# Altium integrated library Linear Technology Power Management Switching Regulator LTC1174-LTC3901.IntLib: 2647 symbols (part 326 of 364)
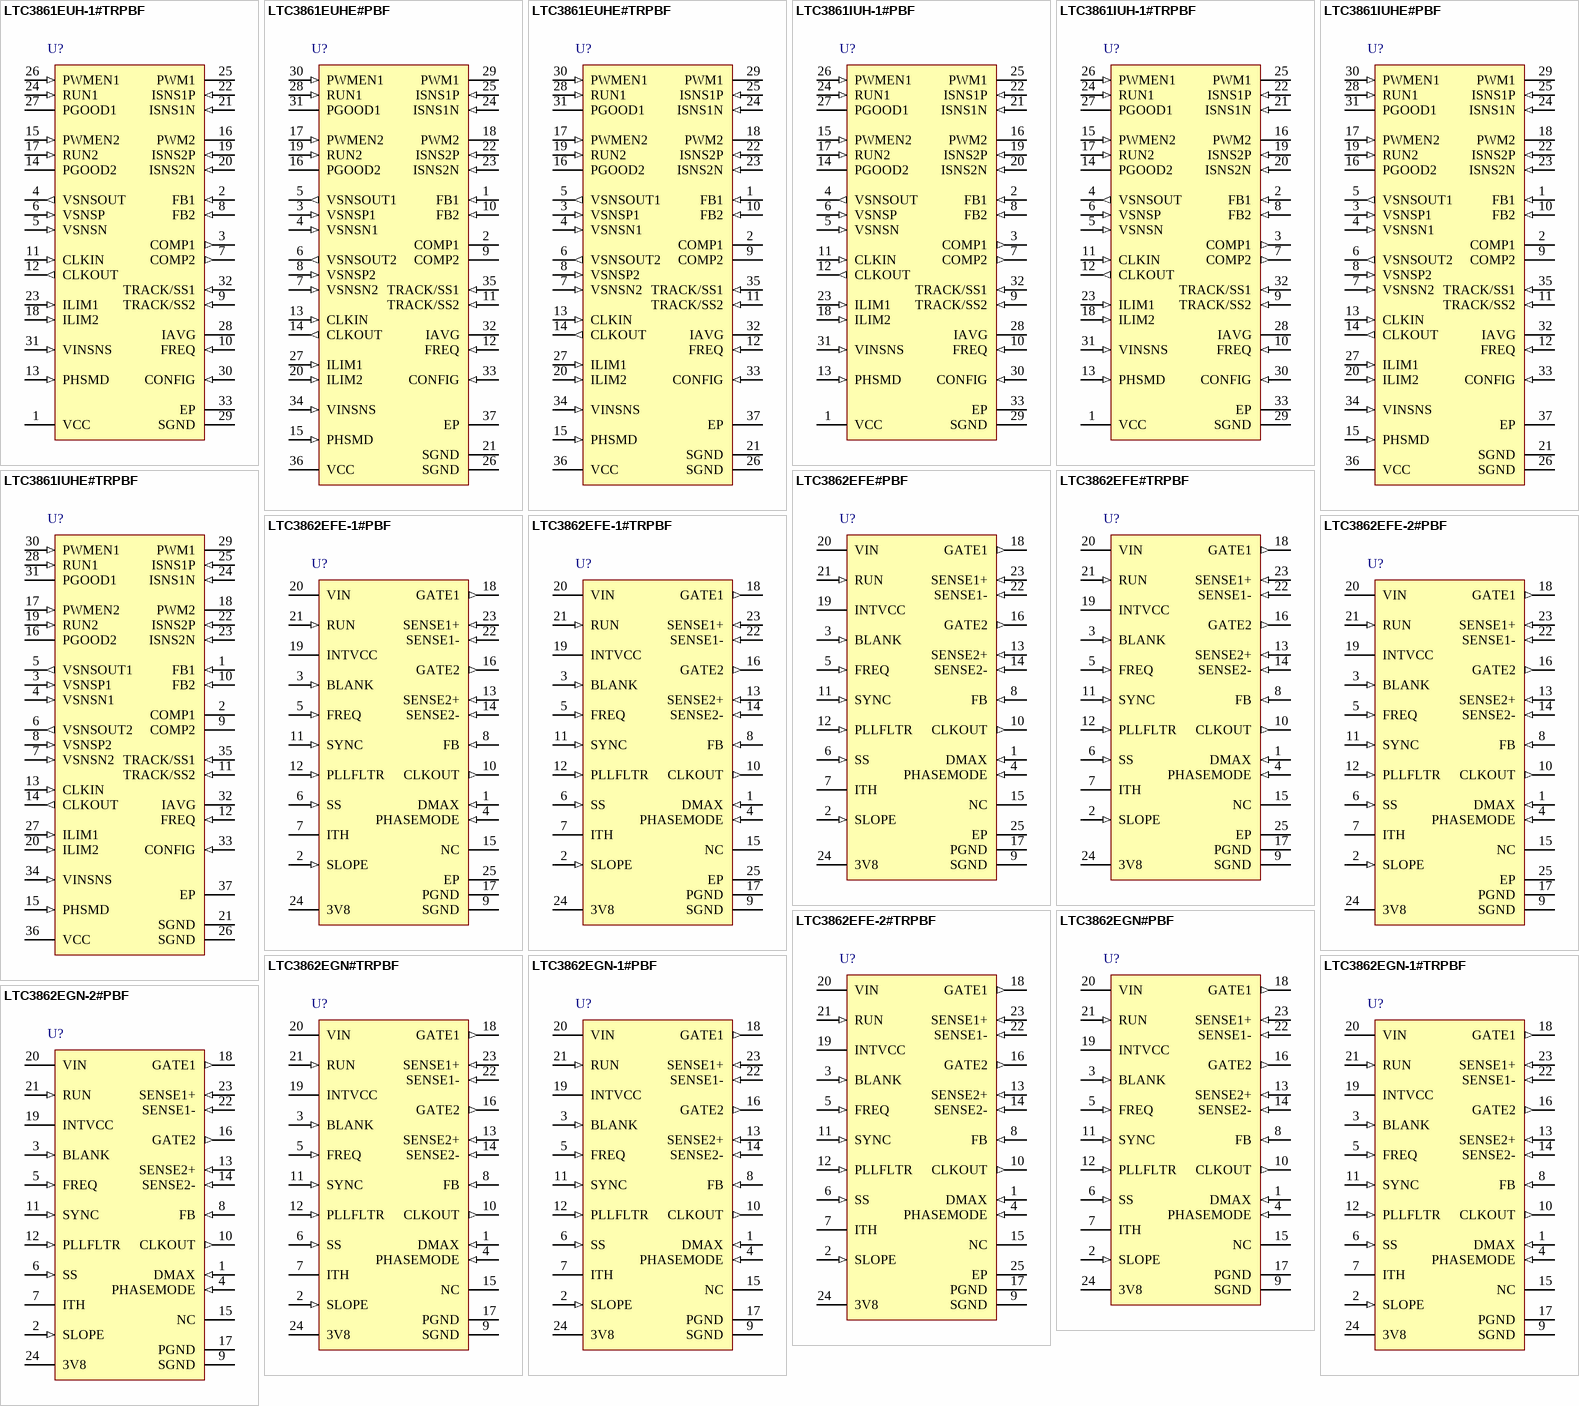
[diagram p286: symbols LTC3861EUH-1#TRPBF to LTC3862EGN-2#PBF]

## LTC3861IUHE#TRPBF
designator U?
Dual, Multiphase Step-Down Voltage Mode DC/DC Controller with Accurate Current Sharing, 36-pin QFN (UHE-36), -40 to 125 degC, Pb-Free, Tape and Reel; Manufacturer: Linear Technology; PartNumber: LTC3861IUHE#TRPBF; Frequency Sync Range: Up to 2.25MHz; Number of Outputs: 1; DatasheetVersion: Rev. A; PackageVersion: Rev. Ø, 10/2010; PackageReference: UHE-36; PackageDescription: 36-Pin Plastic QFN, Body 5 x 6 mm, Pitch 0.5 mm; Supplier 1: Digi-Key; Supplier Part Number 1: LTC3861IUHE#TRPBF-ND; Packing: Tape and Reel; RoHS: TRUE; Mounting Technology: Surface Mount; ComponentLink1Description: Manufacturer URL; ComponentLink1URL: http://www.linear.com/; ComponentLink2Description: Datasheet; ComponentLink2URL: http://cds.linear.com/docs/en/datasheet/3861fa.pdf; ComponentLink3Description: Package Specification; ComponentLink3URL: http://cds.linear.com/docs/en/packaging/(UHE36)%20QFN%2005-08-1876%20Rev%20%C3%98.pdf
footprint LT-UHE-36-4600X3600TP_N (QFN, 36-Leads, Body 6.1x5.1mm, Pitch 0.5mm, Thermal Pad 4.6x3.6mm, IPC Medium Density)
footprint LT-UHE-36-4600X3600TP_L (QFN, 36-Leads, Body 6.1x5.1mm, Pitch 0.5mm, Thermal Pad 4.6x3.6mm, IPC High Density)
footprint LT-UHE-36-4600X3600TP_M (QFN, 36-Leads, Body 6.1x5.1mm, Pitch 0.5mm, Thermal Pad 4.6x3.6mm, IPC Low Density)
pins: 1 FB1 (in) "Error Amplifier Inverting Input. Connect to VSNSOUT1, VNSOUT2 with a compensation network for remote VOUT sensing. Connecting the FB to VCC disables the differential and error amplifiers of the respective channel, and will (See Datasheet)", 2 COMP1 "Error Amplifier Outputs. PWM duty cycle increases with this control voltage. The error amplifiers in the LTC3861 are true operational amplifiers with low output impedance. As a result, the outputs of two active error (See Datasheet)", 3 VSNSP1 (in) "Differential Sense Amplifier Noninverting Input. Connect this pin to the midpoint of the feedback resistive divider between the positive and negative output capacitor terminals.", 4 VSNSN1 (in) "Differential Sense Amplifier Inverting Input. Connect this pin to sense ground at the output load.", 5 VSNSOUT1 (out) "Differential Amplifier Output. Connect to FB1, FB2 with a compensation network for remote VOUT sensing.", 6 VSNSOUT2 (out) "Differential Amplifier Output. Connect to FB1, FB2 with a compensation network for remote VOUT sensing.", 7 VSNSN2 (in) "Differential Sense Amplifier Inverting Input. Connect this pin to sense ground at the output load.", 8 VSNSP2 (in) "Differential Sense Amplifier Noninverting Input. Connect this pin to the midpoint of the feedback resistive divider between the positive and negative output capacitor terminals.", 9 COMP2 "Error Amplifier Outputs. PWM duty cycle increases with this control voltage. The error amplifiers in the LTC3861 are true operational amplifiers with low output impedance. As a result, the outputs of two active error (See Datasheet)", 10 FB2 (in) "Error Amplifier Inverting Input. Connect to VSNSOUT1, VNSOUT2 with a compensation network for remote VOUT sensing. Connecting the FB to VCC disables the differential and error amplifiers of the respective channel, and will (See Datasheet)", 11 TRACK/SS2 (in) "Combined Soft-Start and Tracking Inputs. For soft-start operation, connecting a capacitor from this pin to ground will control the voltage ramp at the output of the power supply. An internal 2.5uA current source will charge (See Datasheet)", 12 FREQ (in) "Frequency Set/Select Pin. This pin sources 20uA current. If CLKIN is high or floating, then a resistor between this pin and SGND sets the switching frequency. If CLKIN is low, the logic state of this pin selects an internal (See Datasheet)", 13 CLKIN (in) "External Clock Synchronization Input. Applying an external clock between 250kHz to 2.25MHz will cause the switching frequency to synchronize to the clock. CLKIN is pulled high to VCC by a 50k internal resistor. The rising (See Datasheet)", 14 CLKOUT (out) "Digital Output Used for Daisychaining  Multiple LTC3861 ICs in Multiphase Systems. The PHSMD pin voltage controls the relationship between CH1 andCH2  as well as between CH1 and CLKOUT. When both RUN pins are driven low, the (See Datasheet)", 15 PHSMD (in) "Phase Mode Pin. The PHSMD pin voltage programs the phase relationship between CH1 and CH2 rising PWM signals, as well as the phase relationship between CH1 PWM signal and CLKOUT. Floating this pin or connecting it to either (See Datasheet)", 16 PGOOD2 (oc) "Power Good Indicator Output for Each Channel. Open-drain logic out that is pulled to SGND when either channel output exceeds a +/-10% regulation window, after the internal 30us power bad mask timer expires.", 17 PWMEN2 (in) "Enable Pin for Non-Three-State compatible drivers. This pin has an internal open-drain pull-up to VCC. An external resistor to SGND is required. This pin is low when the corresponding PWM pin is high impedance.", 18 PWM2 (hiz) "(Top) Gate Signal Output. This signal goes to the PWM or top gate input of the external gate driver or integrated driver MOSFET. This is a three-state compatible output.", 19 RUN2 (in) "Run Control Inputs. A voltage above 2.25V on either pin turns on the IC. However, forcing either of these pins below 2V causes the IC to shut down that particular channel. There are 1.5uA pull-up currents for these pins.", 20 ILIM2 (in) "Current Comparator Sense Voltage Limit Selection Pin. Connect a resistor from this pin to SGND. This pin sources 20uA. The resultant voltage sets the threshold for overcurrent protection.", 21 SGND (power) "Signal Ground. Pins 21, 26, and 37 are electrically connected internally.  The exposed pad must be soldered to the PCB ground for rated thermal performance. All soft-start, small-signal and compensation components should (See Datasheet)", 22 ISNS2P (in) "Current Sense Amplifier (+) Input. The (+) input to the current sense amplifier is normally connected to the midpoint of the inductor’s  parallel RC sense circuit or to the node between the inductor and sense resistor i(See Datasheet)", 23 ISNS2N (in) "Current Sense Amplifier (-) Input. The (-) input to the current amplifier is normally connected to the respective VOUT at the inductor.", 24 ISNS1N (in) "Current Sense Amplifier (-) Input. The (-) input to the current amplifier is normally connected to the respective VOUT at the inductor.", 25 ISNS1P (in) "Current Sense Amplifier (+) Input. The (+) input to the current sense amplifier is normally connected to the midpoint of the inductor’s  parallel RC sense circuit or to the node between the inductor and sense resistor i(See Datasheet)", 26 SGND (power) "Signal Ground. Pins 21, 26, and 37 are electrically connected internally.  The exposed pad must be soldered to the PCB ground for rated thermal performance. All soft-start, small-signal and compensation components should (See Datasheet)", 27 ILIM1 (in) "Current Comparator Sense Voltage Limit Selection Pin. Connect a resistor from this pin to SGND. This pin sources 20uA. The resultant voltage sets the threshold for overcurrent protection.", 28 RUN1 (in) "Run Control Inputs. A voltage above 2.25V on either pin turns on the IC. However, forcing either of these pins below 2V causes the IC to shut down that particular channel. There are 1.5uA pull-up currents for these pins.", 29 PWM1 (hiz) "(Top) Gate Signal Output. This signal goes to the PWM or top gate input of the external gate driver or integrated driver MOSFET. This is a three-state compatible output.", 30 PWMEN1 (in) "Enable Pin for Non-Three-State compatible drivers. This pin has an internal open-drain pull-up to VCC. An external resistor to SGND is required. This pin is low when the corresponding PWM pin is high impedance.", 31 PGOOD1 (oc) "Power Good Indicator Output for Each Channel. Open-drain logic out that is pulled to SGND when either channel output exceeds a +/-10% regulation window, after the internal 30us power bad mask timer expires.", 32 IAVG "Average Current Output Pin. A capacitor tied to ground from this pin stores a voltage proportional to the instantaneous average current of the master when multiple outputs are paralleled together in a master-slave (See Datasheet)", 33 CONFIG (in) "Line Feedforward Configuration Pin.  This pin allows the user to configure the multiplier to  achieve accurate modulator gain over varying VIN and  switching frequencies. This pin can be connected to VCC or SGND. An internal (See Datasheet)", 34 VINSNS (in) "VIN Sense Pin. Connects to the VIN power supply to provide line feedforward compensation. A change in VIN immediately modulates the input to the PWM comparator and changes the pulse width in an inversely proportionalmanner, (See Datasheet)", 35 TRACK/SS1 (in) "Combined Soft-Start and Tracking Inputs. For soft-start operation, connecting a capacitor from this pin to ground will control the voltage ramp at the output of the power supply. An internal 2.5uA current source will charge (See Datasheet)", 36 VCC (power) "Chip Supply Voltage. Bypass this pin to GND with a capacitor (0.1uF to 1uF ceramic) in close proximity to the chip.", 37 EP (power) "Signal Ground. Pins 21, 26, and 37 are electrically connected internally.  The exposed pad must be soldered to the PCB ground for rated thermal performance. All soft-start, small-signal and compensation components should (See Datasheet)"

## LTC3862EFE#PBF
designator U?
Multi-Phase Current Mode Step-Up DC/DC Controller, 5 V IntVcc, 3.3 V UV+, 2.9 V UV-, 24-pin SOP (FE-24-EPV-AA), -40 to 125 degC, Pb-Free; Manufacturer: Linear Technology; PartNumber: LTC3862EFE#PBF; Frequency Sync Range: 50kHz - 650kHz; Number of Outputs: 1; DatasheetVersion: Rev. B; PackageVersion: Rev. B, 09/2010; PackageReference: FE-24; PackageDescription: 24-Pin Plastic TSSOP, Body 7.8 x 4.4 mm, Pitch 0.65 mm; Supplier 1: Digi-Key; Supplier Part Number 1: LTC3862EFE#PBF-ND; Supplier 2: Farnell; Supplier Part Number 2: 1673553; Supplier 3: Newark; Supplier Part Number 3: 07P8312; RoHS: TRUE; Mounting Technology: Surface Mount; ComponentLink1Description: Manufacturer URL; ComponentLink1URL: http://www.linear.com/; ComponentLink2Description: Datasheet; ComponentLink2URL: http://cds.linear.com/docs/en/datasheet/3862fb.pdf; ComponentLink3Description: Package Specification; ComponentLink3URL: http://cds.linear.com/docs/en/packaging/TSSOP_24_05-08-1771.pdf
footprint LT-FE-24-EPV-AA_N (SOP, 24-Leads, Body 7.9x4.5mm, Pitch 0.65mm, Thermal Pad 2.74x3.25mm, IPC Medium Density)
footprint LT-FE-24-EPV-AA_L (SOP, 24-Leads, Body 7.9x4.5mm, Pitch 0.65mm, Thermal Pad 2.74x3.25mm, IPC High Density)
footprint LT-FE-24-EPV-AA_M (SOP, 24-Leads, Body 7.9x4.5mm, Pitch 0.65mm, Thermal Pad 2.74x3.25mm, IPC Low Density)
pins: 1 DMAX (in) "Maximum Duty Cycle. This pin programs the maximum duty cycle. Floating this pin provides 84% duty cycle. Connecting this pin to 3V8 provides 75% duty cycle, while connecting it to SGND provides 96% duty cycle. The maximum (See Datasheet)", 2 SLOPE (in) "This pin programs the gain of the internal slope compensation. Floating this pin provides a normalized slope compensation gain of 1.00. Connecting this pin to 3V8 increases the normalized slope compensation by 66%, and (See Datasheet)", 3 BLANK (in) "Blanking Time. Floating this pin provides a nominal minimum on-time of 260ns. Connecting this pin to 3V8 provides a minimum on-time of 340ns, while connecting it to SGND provides a minimum on-time of 180ns.", 4 PHASEMODE (in) "The PHASEMODE pin voltage programs the phase relationship between CH1 and CH2 rising gate signals, as well as the phase relationship between CH1 gate signal and CLKOUT. Floating this pin or connecting it to either 3V8, or (See Datasheet)", 5 FREQ (in) "A resistor from FREQ to SGND sets the operating frequency.", 6 SS (in) "Soft-Start Input. For soft-start operation, connecting a capacitor from this pin to SGND will clamp the output of the error amp. An internal 5uA current source will charge the capacitor and set the rate of increase of the (See Datasheet)", 7 ITH "Error Amplifier Output. The current comparator trip threshold increases with the ITH control voltage. The ITH pin is also used for compensating the control loop of the converter.", 8 FB (in) "Error Amplifier Input. The FB pin should be connected through a resistive divider network to VOUT to set the output voltage.", 9 SGND (power) "Signal Ground. All feedback and soft-start connections should return to SGND. For optimum load regulation, the SGND pin should be kelvin connected to the PCB location between the negative terminals of the output capacitors.", 10 CLKOUT (out) "Digital Output Used for Daisy-Chaining Multiple LTC3862 ICs in Multi-Phase Systems. The PHASEMODE pin voltage controls the relationship between CH1 and CH2 as well as between CH1 and CLKOUT.", 11 SYNC (in) "PLL Synchronization Input. Applying an external clock between 50kHz and 650kHz will cause the operating frequency to synchronize to the clock. SYNC is pulled down by a 50k internal resistor. The rising edge of the SYNC input (See Datasheet)", 12 PLLFLTR (in) "PLL Lowpass Filter Input. When synchronizing to an external clock, this pin serves as the lowpass filter input for the PLL. A series resistor and capacitor connected from PLLFLTR to SGND compensate the PLL feedback loop.", 13 SENSE2+ (in) "Positive Inputs to the Current Comparators. The ITH pin voltage programs the current comparator offset in order to set the peak current trip threshold. This pin is normally connected to a sense resistor in the source of the (See Datasheet)", 14 SENSE2- (in) "Negative Inputs to the Current Comparators. This pin is normally connected to the bottom of the sense resistor.", 15 NC, 16 GATE2 (out) "Gate Drive Output. The LTC3862 provides a 5V gate drive referenced to PGND to drive a high voltage MOSFET.", 17 PGND (power) "Power Ground. Connect this pin close to the sources of the power MOSFETs. PGND should also be connected to the negative terminals of VIN and INTVCC bypass capacitors. PGND is electrically isolated from the SGND pin. The (See Datasheet)", 18 GATE1 (out) "Gate Drive Output. The LTC3862 provides a 5V gate drive referenced to PGND to drive a high voltage MOSFET.", 19 INTVCC (power) "Output of the Internal 10V Low Dropout Regulator (LDO). A low ESR 4.7uF (X5R or better) ceramic bypass capacitor should be connected between INTVCC and PGND, as close as possible to the IC.", 20 VIN (power) "Main Supply Input. A low ESR ceramic capacitor should be connected between this pin and SGND.", 21 RUN (in) "Run Control Input. A voltage above 1.22V on the pin turns on the IC. Forcing the pin below 1.22V causes the IC to shut down. There is a 0.5uA pull-up current for this pin. Once the RUN pin raises above 1.22V, an additional 4.(See Datasheet)", 22 SENSE1- (in) "Negative Inputs to the Current Comparators. This pin is normally connected to the bottom of the sense resistor.", 23 SENSE1+ (in) "Positive Inputs to the Current Comparators. The ITH pin voltage programs the current comparator offset in order to set the peak current trip threshold. This pin is normally connected to a sense resistor in the source of the (See Datasheet)", 24 3V8 (power) "Output of the Internal 3.8V LDO from INTVCC. Supply pin for the low voltage analog and digital circuits. A low ESR 1nF ceramic bypass capacitor should be connected between 3V8 and SGND, as close as possible to the IC.", 25 EP (power) "Power Ground. Connect this pin close to the sources of the power MOSFETs. PGND should also be connected to the negative terminals of VIN and INTVCC bypass capacitors. PGND is electrically isolated from the SGND pin. The (See Datasheet)"

## LTC3862EFE#TRPBF
designator U?
Multi-Phase Current Mode Step-Up DC/DC Controller, 5 V IntVcc, 3.3 V UV+, 2.9 V UV-, 24-pin SOP (FE-24-EPV-AA), -40 to 125 degC, Pb-Free, Tape and Reel; Manufacturer: Linear Technology; PartNumber: LTC3862EFE#TRPBF; Frequency Sync Range: 50kHz - 650kHz; Number of Outputs: 1; DatasheetVersion: Rev. B; PackageVersion: Rev. B, 09/2010; PackageReference: FE-24; PackageDescription: 24-Pin Plastic TSSOP, Body 7.8 x 4.4 mm, Pitch 0.65 mm; Supplier 1: Digi-Key; Supplier Part Number 1: LTC3862EFE#TRPBF-ND; Supplier 2: Newark; Supplier Part Number 2: 07P8313; Packing: Tape and Reel; RoHS: TRUE; Mounting Technology: Surface Mount; ComponentLink1Description: Manufacturer URL; ComponentLink1URL: http://www.linear.com/; ComponentLink2Description: Datasheet; ComponentLink2URL: http://cds.linear.com/docs/en/datasheet/3862fb.pdf; ComponentLink3Description: Package Specification; ComponentLink3URL: http://cds.linear.com/docs/en/packaging/TSSOP_24_05-08-1771.pdf
footprint LT-FE-24-EPV-AA_N (SOP, 24-Leads, Body 7.9x4.5mm, Pitch 0.65mm, Thermal Pad 2.74x3.25mm, IPC Medium Density)
footprint LT-FE-24-EPV-AA_L (SOP, 24-Leads, Body 7.9x4.5mm, Pitch 0.65mm, Thermal Pad 2.74x3.25mm, IPC High Density)
footprint LT-FE-24-EPV-AA_M (SOP, 24-Leads, Body 7.9x4.5mm, Pitch 0.65mm, Thermal Pad 2.74x3.25mm, IPC Low Density)
pins: 1 DMAX (in) "Maximum Duty Cycle. This pin programs the maximum duty cycle. Floating this pin provides 84% duty cycle. Connecting this pin to 3V8 provides 75% duty cycle, while connecting it to SGND provides 96% duty cycle. The maximum (See Datasheet)", 2 SLOPE (in) "This pin programs the gain of the internal slope compensation. Floating this pin provides a normalized slope compensation gain of 1.00. Connecting this pin to 3V8 increases the normalized slope compensation by 66%, and (See Datasheet)", 3 BLANK (in) "Blanking Time. Floating this pin provides a nominal minimum on-time of 260ns. Connecting this pin to 3V8 provides a minimum on-time of 340ns, while connecting it to SGND provides a minimum on-time of 180ns.", 4 PHASEMODE (in) "The PHASEMODE pin voltage programs the phase relationship between CH1 and CH2 rising gate signals, as well as the phase relationship between CH1 gate signal and CLKOUT. Floating this pin or connecting it to either 3V8, or (See Datasheet)", 5 FREQ (in) "A resistor from FREQ to SGND sets the operating frequency.", 6 SS (in) "Soft-Start Input. For soft-start operation, connecting a capacitor from this pin to SGND will clamp the output of the error amp. An internal 5uA current source will charge the capacitor and set the rate of increase of the (See Datasheet)", 7 ITH "Error Amplifier Output. The current comparator trip threshold increases with the ITH control voltage. The ITH pin is also used for compensating the control loop of the converter.", 8 FB (in) "Error Amplifier Input. The FB pin should be connected through a resistive divider network to VOUT to set the output voltage.", 9 SGND (power) "Signal Ground. All feedback and soft-start connections should return to SGND. For optimum load regulation, the SGND pin should be kelvin connected to the PCB location between the negative terminals of the output capacitors.", 10 CLKOUT (out) "Digital Output Used for Daisy-Chaining Multiple LTC3862 ICs in Multi-Phase Systems. The PHASEMODE pin voltage controls the relationship between CH1 and CH2 as well as between CH1 and CLKOUT.", 11 SYNC (in) "PLL Synchronization Input. Applying an external clock between 50kHz and 650kHz will cause the operating frequency to synchronize to the clock. SYNC is pulled down by a 50k internal resistor. The rising edge of the SYNC input (See Datasheet)", 12 PLLFLTR (in) "PLL Lowpass Filter Input. When synchronizing to an external clock, this pin serves as the lowpass filter input for the PLL. A series resistor and capacitor connected from PLLFLTR to SGND compensate the PLL feedback loop.", 13 SENSE2+ (in) "Positive Inputs to the Current Comparators. The ITH pin voltage programs the current comparator offset in order to set the peak current trip threshold. This pin is normally connected to a sense resistor in the source of the (See Datasheet)", 14 SENSE2- (in) "Negative Inputs to the Current Comparators. This pin is normally connected to the bottom of the sense resistor.", 15 NC, 16 GATE2 (out) "Gate Drive Output. The LTC3862 provides a 5V gate drive referenced to PGND to drive a high voltage MOSFET.", 17 PGND (power) "Power Ground. Connect this pin close to the sources of the power MOSFETs. PGND should also be connected to the negative terminals of VIN and INTVCC bypass capacitors. PGND is electrically isolated from the SGND pin. The (See Datasheet)", 18 GATE1 (out) "Gate Drive Output. The LTC3862 provides a 5V gate drive referenced to PGND to drive a high voltage MOSFET.", 19 INTVCC (power) "Output of the Internal 10V Low Dropout Regulator (LDO). A low ESR 4.7uF (X5R or better) ceramic bypass capacitor should be connected between INTVCC and PGND, as close as possible to the IC.", 20 VIN (power) "Main Supply Input. A low ESR ceramic capacitor should be connected between this pin and SGND.", 21 RUN (in) "Run Control Input. A voltage above 1.22V on the pin turns on the IC. Forcing the pin below 1.22V causes the IC to shut down. There is a 0.5uA pull-up current for this pin. Once the RUN pin raises above 1.22V, an additional 4.(See Datasheet)", 22 SENSE1- (in) "Negative Inputs to the Current Comparators. This pin is normally connected to the bottom of the sense resistor.", 23 SENSE1+ (in) "Positive Inputs to the Current Comparators. The ITH pin voltage programs the current comparator offset in order to set the peak current trip threshold. This pin is normally connected to a sense resistor in the source of the (See Datasheet)", 24 3V8 (power) "Output of the Internal 3.8V LDO from INTVCC. Supply pin for the low voltage analog and digital circuits. A low ESR 1nF ceramic bypass capacitor should be connected between 3V8 and SGND, as close as possible to the IC.", 25 EP (power) "Power Ground. Connect this pin close to the sources of the power MOSFETs. PGND should also be connected to the negative terminals of VIN and INTVCC bypass capacitors. PGND is electrically isolated from the SGND pin. The (See Datasheet)"

## LTC3862EFE-1#PBF
designator U?
Multi-Phase Current Mode Step-Up DC/DC Controller, 10 V IntVcc, 7.5 V UV+, 7 V UV-, 24-pin SOP (FE-24-EPV-AA), -40 to 125 degC, Pb-Free; Manufacturer: Linear Technology; PartNumber: LTC3862EFE-1#PBF; Frequency Sync Range: 50kHz - 650kHz; Number of Outputs: 1; PackageVersion: Rev. B, 09/2010; PackageReference: FE-24; PackageDescription: 24-Pin Plastic TSSOP, Body 7.8 x 4.4 mm, Pitch 0.65 mm; Supplier 1: Digi-Key; Supplier Part Number 1: LTC3862EFE-1#PBF-ND; Supplier 2: Farnell; Supplier Part Number 2: 1673525; Supplier 3: Newark; Supplier Part Number 3: 12P7567; RoHS: TRUE; Mounting Technology: Surface Mount; ComponentLink1Description: Manufacturer URL; ComponentLink1URL: http://www.linear.com/; ComponentLink2Description: Datasheet; ComponentLink2URL: http://cds.linear.com/docs/en/datasheet/38621f.pdf; ComponentLink3Description: Package Specification; ComponentLink3URL: http://cds.linear.com/docs/en/packaging/TSSOP_24_05-08-1771.pdf
footprint LT-FE-24-EPV-AA_N (SOP, 24-Leads, Body 7.9x4.5mm, Pitch 0.65mm, Thermal Pad 2.74x3.25mm, IPC Medium Density)
footprint LT-FE-24-EPV-AA_L (SOP, 24-Leads, Body 7.9x4.5mm, Pitch 0.65mm, Thermal Pad 2.74x3.25mm, IPC High Density)
footprint LT-FE-24-EPV-AA_M (SOP, 24-Leads, Body 7.9x4.5mm, Pitch 0.65mm, Thermal Pad 2.74x3.25mm, IPC Low Density)
pins: 1 DMAX (in) "Maximum Duty Cycle. This pin programs the maximum duty cycle. Floating this pin provides 84% duty cycle. Connecting this pin to 3V8 provides 75% duty cycle, while connecting it to SGND provides 96% duty cycle. The maximum (See Datasheet)", 2 SLOPE (in) "This pin programs the gain of the internal slope compensation. Floating this pin provides a normalized slope compensation gain of 1.00. Connecting this pin to 3V8 increases the normalized slope compensation by 66%, and (See Datasheet)", 3 BLANK (in) "Blanking Time. Floating this pin provides a nominal minimum on-time of 290ns. Connecting this pin to 3V8 provides a minimum on-time of 375ns, while connecting it to SGND provides a minimum on-time of 210ns.", 4 PHASEMODE (in) "The PHASEMODE pin voltage programs the phase relationship between CH1 and CH2 rising gate signals, as well as the phase relationship between CH1 gate signal and CLKOUT. Floating this pin or connecting it to either 3V8, or (See Datasheet)", 5 FREQ (in) "A resistor from FREQ to SGND sets the operating frequency.", 6 SS (in) "Soft-Start Input. For soft-start operation, connecting a capacitor from this pin to SGND will clamp the output of the error amp. An internal 5uA current source will charge the capacitor and set the rate of increase of the (See Datasheet)", 7 ITH "Error Amplifier Output. The current comparator trip threshold increases with the ITH control voltage. The ITH pin is also used for compensating the control loop of the converter.", 8 FB (in) "Error Amplifier Input. The FB pin should be connected through a resistive divider network to VOUT to set the output voltage.", 9 SGND (power) "Signal Ground. All feedback and soft-start connections should return to SGND. For optimum load regulation, the SGND pin should be kelvin connected to the PCB location between the negative terminals of the output capacitors.", 10 CLKOUT (out), 11 SYNC (in) "PLL Synchronization Input. Applying an external clock between 50kHz and 650kHz will cause the operating frequency to synchronize to the clock. SYNC is pulled down by a 50k internal resistor. The rising edge of the SYNC input (See Datasheet)", 12 PLLFLTR (in) "PLL Lowpass Filter Input. When synchronizing to an external clock, this pin serves as the lowpass filter input for the PLL. A series resistor and capacitor connected from PLLFLTR to SGND compensate the PLL feedback loop.", 13 SENSE2+ (in) "Positive Inputs to the Current Comparators. The ITH pin voltage programs the current comparator offset in order to set the peak current trip threshold. This pin is normally connected to a sense resistor in the source of the (See Datasheet)", 14 SENSE2- (in) "Negative Inputs to the Current Comparators. This pin is normally connected to the bottom of the sense resistor.", 15 NC, 16 GATE2 (out) "Gate Drive Output.", 17 PGND (power) "Power Ground. Connect this pin close to the sources of the power MOSFETs. PGND should also be connected to the negative terminals of VIN and INTVCC bypass capacitors. PGND is electrically isolated from the SGND pin. The (See Datasheet)", 18 GATE1 (out) "Gate Drive Output.", 19 INTVCC (power) "Output of the Internal 10V Low Dropout Regulator (LDO). A low ESR 4.7uF (X5R or better) ceramic bypass capacitor should be connected between INTVCC and PGND, as close as possible to the IC.", 20 VIN (power) "Main Supply Input. A low ESR ceramic capacitor should be connected between this pin and SGND.", 21 RUN (in) "Run Control Input. A voltage above 1.22V on the pin turns on the IC. Forcing the pin below 1.22V causes the IC to shut down. There is a 0.5uA pull-up current for this pin. Once the RUN pin raises above 1.22V, an additional 4.(See Datasheet)", 22 SENSE1- (in) "Negative Inputs to the Current Comparators. This pin is normally connected to the bottom of the sense resistor.", 23 SENSE1+ (in) "Positive Inputs to the Current Comparators. The ITH pin voltage programs the current comparator offset in order to set the peak current trip threshold. This pin is normally connected to a sense resistor in the source of the (See Datasheet)", 24 3V8 (power) "Output of the Internal 3.8V LDO from INTVCC. Supply pin for the low voltage analog and digital circuits. A low ESR 1nF ceramic bypass capacitor should be connected between 3V8 and SGND, as close as possible to the IC.", 25 EP (power)

## LTC3862EFE-1#TRPBF
designator U?
Multi-Phase Current Mode Step-Up DC/DC Controller, 10 V IntVcc, 7.5 V UV+, 7 V UV-, 24-pin SOP (FE-24-EPV-AA), -40 to 125 degC, Pb-Free, Tape and Reel; Manufacturer: Linear Technology; PartNumber: LTC3862EFE-1#TRPBF; Frequency Sync Range: 50kHz - 650kHz; Number of Outputs: 1; PackageVersion: Rev. B, 09/2010; PackageReference: FE-24; PackageDescription: 24-Pin Plastic TSSOP, Body 7.8 x 4.4 mm, Pitch 0.65 mm; Supplier 1: Digi-Key; Supplier Part Number 1: LTC3862EFE-1#TRPBF-ND; Packing: Tape and Reel; RoHS: TRUE; Mounting Technology: Surface Mount; ComponentLink1Description: Manufacturer URL; ComponentLink1URL: http://www.linear.com/; ComponentLink2Description: Datasheet; ComponentLink2URL: http://cds.linear.com/docs/en/datasheet/38621f.pdf; ComponentLink3Description: Package Specification; ComponentLink3URL: http://cds.linear.com/docs/en/packaging/TSSOP_24_05-08-1771.pdf
footprint LT-FE-24-EPV-AA_N (SOP, 24-Leads, Body 7.9x4.5mm, Pitch 0.65mm, Thermal Pad 2.74x3.25mm, IPC Medium Density)
footprint LT-FE-24-EPV-AA_L (SOP, 24-Leads, Body 7.9x4.5mm, Pitch 0.65mm, Thermal Pad 2.74x3.25mm, IPC High Density)
footprint LT-FE-24-EPV-AA_M (SOP, 24-Leads, Body 7.9x4.5mm, Pitch 0.65mm, Thermal Pad 2.74x3.25mm, IPC Low Density)
pins: 1 DMAX (in) "Maximum Duty Cycle. This pin programs the maximum duty cycle. Floating this pin provides 84% duty cycle. Connecting this pin to 3V8 provides 75% duty cycle, while connecting it to SGND provides 96% duty cycle. The maximum (See Datasheet)", 2 SLOPE (in) "This pin programs the gain of the internal slope compensation. Floating this pin provides a normalized slope compensation gain of 1.00. Connecting this pin to 3V8 increases the normalized slope compensation by 66%, and (See Datasheet)", 3 BLANK (in) "Blanking Time. Floating this pin provides a nominal minimum on-time of 290ns. Connecting this pin to 3V8 provides a minimum on-time of 375ns, while connecting it to SGND provides a minimum on-time of 210ns.", 4 PHASEMODE (in) "The PHASEMODE pin voltage programs the phase relationship between CH1 and CH2 rising gate signals, as well as the phase relationship between CH1 gate signal and CLKOUT. Floating this pin or connecting it to either 3V8, or (See Datasheet)", 5 FREQ (in) "A resistor from FREQ to SGND sets the operating frequency.", 6 SS (in) "Soft-Start Input. For soft-start operation, connecting a capacitor from this pin to SGND will clamp the output of the error amp. An internal 5uA current source will charge the capacitor and set the rate of increase of the (See Datasheet)", 7 ITH "Error Amplifier Output. The current comparator trip threshold increases with the ITH control voltage. The ITH pin is also used for compensating the control loop of the converter.", 8 FB (in) "Error Amplifier Input. The FB pin should be connected through a resistive divider network to VOUT to set the output voltage.", 9 SGND (power) "Signal Ground. All feedback and soft-start connections should return to SGND. For optimum load regulation, the SGND pin should be kelvin connected to the PCB location between the negative terminals of the output capacitors.", 10 CLKOUT (out), 11 SYNC (in) "PLL Synchronization Input. Applying an external clock between 50kHz and 650kHz will cause the operating frequency to synchronize to the clock. SYNC is pulled down by a 50k internal resistor. The rising edge of the SYNC input (See Datasheet)", 12 PLLFLTR (in) "PLL Lowpass Filter Input. When synchronizing to an external clock, this pin serves as the lowpass filter input for the PLL. A series resistor and capacitor connected from PLLFLTR to SGND compensate the PLL feedback loop.", 13 SENSE2+ (in) "Positive Inputs to the Current Comparators. The ITH pin voltage programs the current comparator offset in order to set the peak current trip threshold. This pin is normally connected to a sense resistor in the source of the (See Datasheet)", 14 SENSE2- (in) "Negative Inputs to the Current Comparators. This pin is normally connected to the bottom of the sense resistor.", 15 NC, 16 GATE2 (out) "Gate Drive Output.", 17 PGND (power) "Power Ground. Connect this pin close to the sources of the power MOSFETs. PGND should also be connected to the negative terminals of VIN and INTVCC bypass capacitors. PGND is electrically isolated from the SGND pin. The (See Datasheet)", 18 GATE1 (out) "Gate Drive Output.", 19 INTVCC (power) "Output of the Internal 10V Low Dropout Regulator (LDO). A low ESR 4.7uF (X5R or better) ceramic bypass capacitor should be connected between INTVCC and PGND, as close as possible to the IC.", 20 VIN (power) "Main Supply Input. A low ESR ceramic capacitor should be connected between this pin and SGND.", 21 RUN (in) "Run Control Input. A voltage above 1.22V on the pin turns on the IC. Forcing the pin below 1.22V causes the IC to shut down. There is a 0.5uA pull-up current for this pin. Once the RUN pin raises above 1.22V, an additional 4.(See Datasheet)", 22 SENSE1- (in) "Negative Inputs to the Current Comparators. This pin is normally connected to the bottom of the sense resistor.", 23 SENSE1+ (in) "Positive Inputs to the Current Comparators. The ITH pin voltage programs the current comparator offset in order to set the peak current trip threshold. This pin is normally connected to a sense resistor in the source of the (See Datasheet)", 24 3V8 (power) "Output of the Internal 3.8V LDO from INTVCC. Supply pin for the low voltage analog and digital circuits. A low ESR 1nF ceramic bypass capacitor should be connected between 3V8 and SGND, as close as possible to the IC.", 25 EP (power)

## LTC3862EFE-2#PBF
designator U?
Multi-Phase Current Mode Step-Up DC/DC Controller, 10 V IntVcc, 4.4 V UV+, 3.9 V UV-, 24-pin SOP (FE-24-EPV-AA), -40 to 125 degC, Pb-Free; Manufacturer: Linear Technology; PartNumber: LTC3862EFE-2#PBF; Frequency Sync Range: 50kHz - 650kHz; Number of Outputs: 1; PackageVersion: Rev. B, 09/2010; PackageReference: FE-24; PackageDescription: 24-Pin Plastic TSSOP, Body 7.8 x 4.4 mm, Pitch 0.65 mm; Supplier 1: Digi-Key; Supplier Part Number 1: LTC3862EFE-2#PBF-ND; Supplier 2: Newark; Supplier Part Number 2: 94T1289; RoHS: TRUE; Mounting Technology: Surface Mount; ComponentLink1Description: Manufacturer URL; ComponentLink1URL: http://www.linear.com/; ComponentLink2Description: Datasheet; ComponentLink2URL: http://cds.linear.com/docs/en/datasheet/38622f.pdf; ComponentLink3Description: Package Specification; ComponentLink3URL: http://cds.linear.com/docs/en/packaging/TSSOP_24_05-08-1771.pdf
footprint LT-FE-24-EPV-AA_N (SOP, 24-Leads, Body 7.9x4.5mm, Pitch 0.65mm, Thermal Pad 2.74x3.25mm, IPC Medium Density)
footprint LT-FE-24-EPV-AA_L (SOP, 24-Leads, Body 7.9x4.5mm, Pitch 0.65mm, Thermal Pad 2.74x3.25mm, IPC High Density)
footprint LT-FE-24-EPV-AA_M (SOP, 24-Leads, Body 7.9x4.5mm, Pitch 0.65mm, Thermal Pad 2.74x3.25mm, IPC Low Density)
pins: 1 DMAX (in) "Maximum Duty Cycle. This pin programs the maximum duty cycle. Floating this pin provides 84% duty cycle. Connecting this pin to 3V8 provides 75% duty cycle, while connecting it to SGND provides 96% duty cycle. The maximum (See Datasheet)", 2 SLOPE (in) "This pin programs the gain of the internal slope compensation. Floating this pin provides a normalized slope compensation gain of 1.00. Connecting this pin to 3V8 increases the normalized slope compensation by 66%, and (See Datasheet)", 3 BLANK (in) "Blanking Time. Floating this pin provides a nominal minimum on-time of 260ns. Connecting this pin to 3V8 provides a minimum on-time of 340ns, while connecting it to SGND provides a minimum on-time of 180ns.", 4 PHASEMODE (in) "The PHASEMODE pin voltage programs the phase relationship between CH1 and CH2 rising gate signals, as well as the phase relationship between CH1 gate signal and CLKOUT. Floating this pin or connecting it to either 3V8, or (See Datasheet)", 5 FREQ (in) "A resistor from FREQ to SGND sets the operating frequency.", 6 SS (in) "Soft-Start Input. For soft-start operation, connecting a capacitor from this pin to SGND will clamp the output of the error amp. An internal 5uA current source will charge the capacitor and set the rate of increase of the (See Datasheet)", 7 ITH "Error Amplifier Output. The current comparator trip threshold increases with the ITH control voltage. The ITH pin is also used for compensating the control loop of the converter.", 8 FB (in) "Error Amplifier Input. The FB pin should be connected through a resistive divider network to VOUT to set the output voltage.", 9 SGND (power) "Signal Ground. All feedback and soft-start connections should return to SGND. For optimum load regulation, the SGND pin should be kelvin connected to the PCB location between the negative terminals of the output capacitors.", 10 CLKOUT (out) "Digital Output Used for Daisy-Chaining Multiple LTC3862 ICs in Multi-Phase Systems. The PHASEMODE pin voltage controls the relationship between CH1 and CH2 as well as between CH1 and CLKOUT.", 11 SYNC (in) "PLL Synchronization Input. Applying an external clock between 50kHz and 650kHz will cause the operating frequency to synchronize to the clock. SYNC is pulled down by a 50k internal resistor. The rising edge of the SYNC input (See Datasheet)", 12 PLLFLTR (in) "PLL Lowpass Filter Input. When synchronizing to an external clock, this pin serves as the lowpass filter input for the PLL. A series resistor and capacitor connected from PLLFLTR to SGND compensate the PLL feedback loop.", 13 SENSE2+ (in) "Positive Inputs to the Current Comparators. The ITH pin voltage programs the current comparator offset in order to set the peak current trip threshold. This pin is normally connected to a sense resistor in the source of the (See Datasheet)", 14 SENSE2- (in) "Negative Inputs to the Current Comparators. This pin is normally connected to the bottom of the sense resistor.", 15 NC, 16 GATE2 (out) "Gate Drive Output. The LTC3862 provides a 5V gate drive referenced to PGND to drive a high voltage MOSFET.", 17 PGND (power) "Power Ground. Connect this pin close to the sources of the power MOSFETs. PGND should also be connected to the negative terminals of VIN and INTVCC bypass capacitors. PGND is electrically isolated from the SGND pin. The (See Datasheet)", 18 GATE1 (out) "Gate Drive Output. The LTC3862 provides a 5V gate drive referenced to PGND to drive a high voltage MOSFET.", 19 INTVCC (power) "Output of the Internal 10V Low Dropout Regulator (LDO). A low ESR 4.7uF (X5R or better) ceramic bypass capacitor should be connected between INTVCC and PGND, as close as possible to the IC.", 20 VIN (power) "Main Supply Input. A low ESR ceramic capacitor should be connected between this pin and SGND.", 21 RUN (in) "Run Control Input. A voltage above 1.22V on the pin turns on the IC. Forcing the pin below 1.22V causes the IC to shut down. There is a 0.5uA pull-up current for this pin. Once the RUN pin raises above 1.22V, an additional 4.(See Datasheet)", 22 SENSE1- (in) "Negative Inputs to the Current Comparators. This pin is normally connected to the bottom of the sense resistor.", 23 SENSE1+ (in) "Positive Inputs to the Current Comparators. The ITH pin voltage programs the current comparator offset in order to set the peak current trip threshold. This pin is normally connected to a sense resistor in the source of the (See Datasheet)", 24 3V8 (power) "Output of the Internal 3.8V LDO from INTVCC. Supply pin for the low voltage analog and digital circuits. A low ESR 1nF ceramic bypass capacitor should be connected between 3V8 and SGND, as close as possible to the IC.", 25 EP (power) "Power Ground. Connect this pin close to the sources of the power MOSFETs. PGND should also be connected to the negative terminals of VIN and INTVCC bypass capacitors. PGND is electrically isolated from the SGND pin. The (See Datasheet)"

## LTC3862EFE-2#TRPBF
designator U?
Multi-Phase Current Mode Step-Up DC/DC Controller, 10 V IntVcc, 4.4 V UV+, 3.9 V UV-, 24-pin SOP (FE-24-EPV-AA), -40 to 125 degC, Pb-Free, Tape and Reel; Manufacturer: Linear Technology; PartNumber: LTC3862EFE-2#TRPBF; Frequency Sync Range: 50kHz - 650kHz; Number of Outputs: 1; PackageVersion: Rev. B, 09/2010; PackageReference: FE-24; PackageDescription: 24-Pin Plastic TSSOP, Body 7.8 x 4.4 mm, Pitch 0.65 mm; Supplier 1: Digi-Key; Supplier Part Number 1: LTC3862EFE-2#TRPBF-ND; Packing: Tape and Reel; RoHS: TRUE; Mounting Technology: Surface Mount; ComponentLink1Description: Manufacturer URL; ComponentLink1URL: http://www.linear.com/; ComponentLink2Description: Datasheet; ComponentLink2URL: http://cds.linear.com/docs/en/datasheet/38622f.pdf; ComponentLink3Description: Package Specification; ComponentLink3URL: http://cds.linear.com/docs/en/packaging/TSSOP_24_05-08-1771.pdf
footprint LT-FE-24-EPV-AA_N (SOP, 24-Leads, Body 7.9x4.5mm, Pitch 0.65mm, Thermal Pad 2.74x3.25mm, IPC Medium Density)
footprint LT-FE-24-EPV-AA_L (SOP, 24-Leads, Body 7.9x4.5mm, Pitch 0.65mm, Thermal Pad 2.74x3.25mm, IPC High Density)
footprint LT-FE-24-EPV-AA_M (SOP, 24-Leads, Body 7.9x4.5mm, Pitch 0.65mm, Thermal Pad 2.74x3.25mm, IPC Low Density)
pins: 1 DMAX (in) "Maximum Duty Cycle. This pin programs the maximum duty cycle. Floating this pin provides 84% duty cycle. Connecting this pin to 3V8 provides 75% duty cycle, while connecting it to SGND provides 96% duty cycle. The maximum (See Datasheet)", 2 SLOPE (in) "This pin programs the gain of the internal slope compensation. Floating this pin provides a normalized slope compensation gain of 1.00. Connecting this pin to 3V8 increases the normalized slope compensation by 66%, and (See Datasheet)", 3 BLANK (in) "Blanking Time. Floating this pin provides a nominal minimum on-time of 290ns. Connecting this pin to 3V8 provides a minimum on-time of 375ns, while connecting it to SGND provides a minimum on-time of 210ns.", 4 PHASEMODE (in) "The PHASEMODE pin voltage programs the phase relationship between CH1 and CH2 rising gate signals, as well as the phase relationship between CH1 gate signal and CLKOUT. Floating this pin or connecting it to either 3V8, or (See Datasheet)", 5 FREQ (in) "A resistor from FREQ to SGND sets the operating frequency.", 6 SS (in) "Soft-Start Input. For soft-start operation, connecting a capacitor from this pin to SGND will clamp the output of the error amp. An internal 5uA current source will charge the capacitor and set the rate of increase of the (See Datasheet)", 7 ITH "Error Amplifier Output. The current comparator trip threshold increases with the ITH control voltage. The ITH pin is also used for compensating the control loop of the converter.", 8 FB (in) "Error Amplifier Input. The FB pin should be connected through a resistive divider network to VOUT to set the output voltage.", 9 SGND (power) "Signal Ground. All feedback and soft-start connections should return to SGND. For optimum load regulation, the SGND pin should be kelvin connected to the PCB location between the negative terminals of the output capacitors.", 10 CLKOUT (out), 11 SYNC (in) "PLL Synchronization Input. Applying an external clock between 50kHz and 650kHz will cause the operating frequency to synchronize to the clock. SYNC is pulled down by a 50k internal resistor. The rising edge of the SYNC input (See Datasheet)", 12 PLLFLTR (in) "PLL Lowpass Filter Input. When synchronizing to an external clock, this pin serves as the lowpass filter input for the PLL. A series resistor and capacitor connected from PLLFLTR to SGND compensate the PLL feedback loop.", 13 SENSE2+ (in) "Positive Inputs to the Current Comparators. The ITH pin voltage programs the current comparator offset in order to set the peak current trip threshold. This pin is normally connected to a sense resistor in the source of the (See Datasheet)", 14 SENSE2- (in) "Negative Inputs to the Current Comparators. This pin is normally connected to the bottom of the sense resistor.", 15 NC, 16 GATE2 (out) "Gate Drive Output.", 17 PGND (power) "Power Ground. Connect this pin close to the sources of the power MOSFETs. PGND should also be connected to the negative terminals of VIN and INTVCC bypass capacitors. PGND is electrically isolated from the SGND pin. The (See Datasheet)", 18 GATE1 (out) "Gate Drive Output.", 19 INTVCC (power) "Output of the Internal 10V Low Dropout Regulator (LDO). A low ESR 4.7uF (X5R or better) ceramic bypass capacitor should be connected between INTVCC and PGND, as close as possible to the IC.", 20 VIN (power) "Main Supply Input. A low ESR ceramic capacitor should be connected between this pin and SGND.", 21 RUN (in) "Run Control Input. A voltage above 1.22V on the pin turns on the IC. Forcing the pin below 1.22V causes the IC to shut down. There is a 0.5uA pull-up current for this pin. Once the RUN pin raises above 1.22V, an additional 4.(See Datasheet)", 22 SENSE1- (in) "Negative Inputs to the Current Comparators. This pin is normally connected to the bottom of the sense resistor.", 23 SENSE1+ (in) "Positive Inputs to the Current Comparators. The ITH pin voltage programs the current comparator offset in order to set the peak current trip threshold. This pin is normally connected to a sense resistor in the source of the (See Datasheet)", 24 3V8 (power) "Output of the Internal 3.8V LDO from INTVCC. Supply pin for the low voltage analog and digital circuits. A low ESR 1nF ceramic bypass capacitor should be connected between 3V8 and SGND, as close as possible to the IC.", 25 EP (power)